# EAGLE library part PINHD-1X6 (library apro)
PIN HEADER
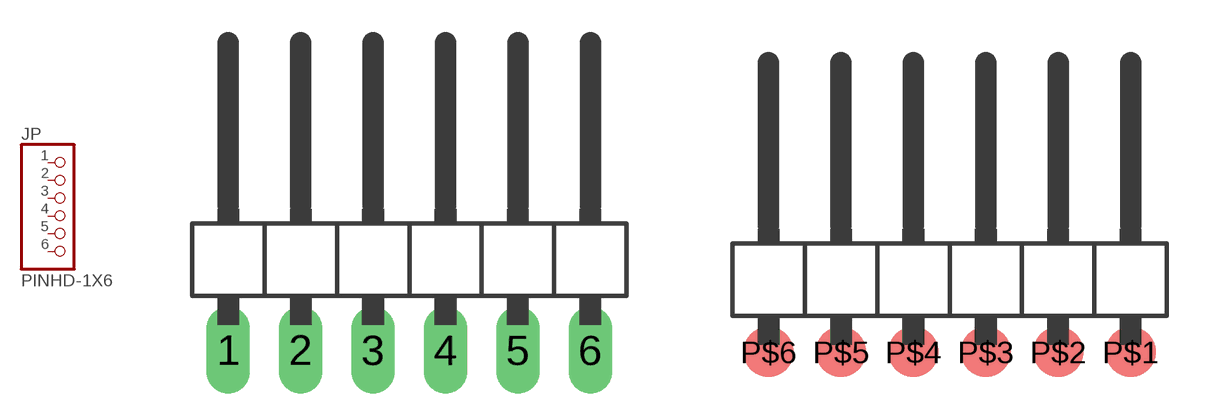
[diagram p7: symbol with the pads of 1X06/90; footprints 1X06/90, 1X6/90SMD]

Designator prefix JP

## PINHD-1X6/90  [1X06/90]
1  1  pas
2  2  pas
3  3  pas
4  4  pas
5  5  pas
6  6  pas

## PINHD-1X6SMD  [1X6/90SMD]
P$1  1  pas
P$2  2  pas
P$3  3  pas
P$4  4  pas
P$5  5  pas
P$6  6  pas

## Footprint 1X06/90 (pad centres in mm)
PIN HEADER
drill 1.016 long: 1 -6.35,-3.81; 2 -3.81,-3.81; 3 -1.27,-3.81; 4 1.27,-3.81; 5 3.81,-3.81; 6 6.35,-3.81

## Footprint 1X6/90SMD (pad centres in mm)
smd 1.778 x 1.778: P$1 6.35,-2.54; P$2 3.81,-2.54; P$3 1.27,-2.54; P$4 -1.27,-2.54; P$5 -3.81,-2.54; P$6 -6.35,-2.54